# EAGLE library part TC4428 (library m_ic-power)
Dual Gate Driver: Non-inverting + Inverting
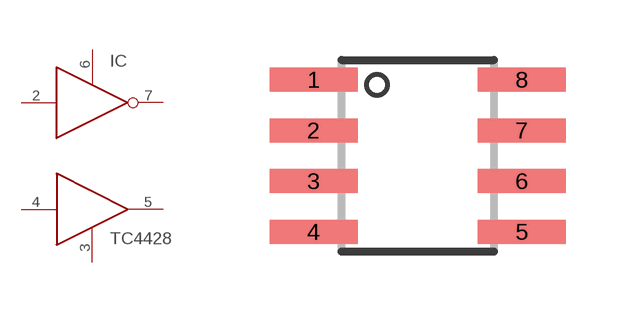
[diagram p6: symbol with the pads of SO08; footprint SO08]

Designator prefix IC

## TC4428  [SO08]
2  IN_A  in
3  GND  pwr
4  IN_B  in
5  OUT_B  out
6  VDD  pwr
7  OUT_A  out

## Footprint SO08 (pad centres in mm)
Small Outline Package 8 NS Package M08A
smd 2.2 x 0.6: 1 -2.604,1.905; 2 -2.604,0.635; 3 -2.604,-0.635; 4 -2.604,-1.905; 5 2.604,-1.905; 6 2.604,-0.635; 7 2.604,0.635; 8 2.604,1.905